# EAGLE library part CON64L (library con-harting)
CONNECTOR
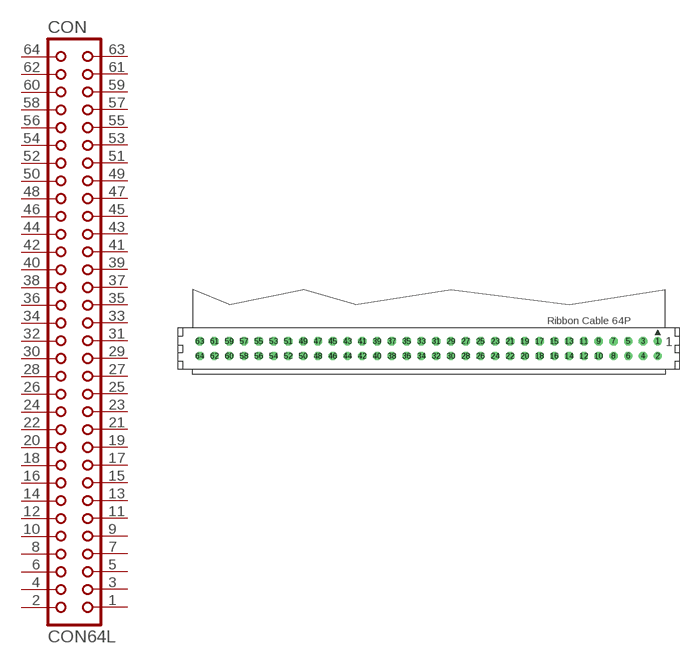
[diagram p22: symbol with the pads of CON64L; footprint CON64L]

Designator prefix CON

## CON64L (OC_FARNELL: unknown; OC_NEWARK: unknown)  [CON64L]
1  1  pas
2  2  pas
3  3  pas
4  4  pas
5  5  pas
6  6  pas
7  7  pas
8  8  pas
9  9  pas
10  10  pas
11  11  pas
12  12  pas
13  13  pas
14  14  pas
15  15  pas
16  16  pas
17  17  pas
18  18  pas
19  19  pas
20  20  pas
21  21  pas
22  22  pas
23  23  pas
24  24  pas
25  25  pas
26  26  pas
27  27  pas
28  28  pas
29  29  pas
30  30  pas
31  31  pas
32  32  pas
33  33  pas
34  34  pas
35  35  pas
36  36  pas
37  37  pas
38  38  pas
39  39  pas
40  40  pas
41  41  pas
42  42  pas
43  43  pas
44  44  pas
45  45  pas
46  46  pas
47  47  pas
48  48  pas
49  49  pas
50  50  pas
51  51  pas
52  52  pas
53  53  pas
54  54  pas
55  55  pas
56  56  pas
57  57  pas
58  58  pas
59  59  pas
60  60  pas
61  61  pas
62  62  pas
63  63  pas
64  64  pas

## Footprint CON64L (pad centres in mm)
CONNECTOR
drill 0.914: 1 39.37,1.27
drill 0.914 octagon: 2 39.37,-1.27; 3 36.83,1.27; 4 36.83,-1.27; 5 34.29,1.27; 6 34.29,-1.27; 7 31.75,1.27; 8 31.75,-1.27; 9 29.21,1.27; 10 29.21,-1.27; 11 26.67,1.27; 12 26.67,-1.27; 13 24.13,1.27; 14 24.13,-1.27; 15 21.59,1.27; 16 21.59,-1.27; 17 19.05,1.27; 18 19.05,-1.27; 19 16.51,1.27; 20 16.51,-1.27; 21 13.97,1.27; 22 13.97,-1.27; 23 11.43,1.27; 24 11.43,-1.27; 25 8.89,1.27; 26 8.89,-1.27; 27 6.35,1.27; 28 6.35,-1.27; 29 3.81,1.27; 30 3.81,-1.27; 31 1.27,1.27; 32 1.27,-1.27; 33 -1.27,1.27; 34 -1.27,-1.27; 35 -3.81,1.27; 36 -3.81,-1.27; 37 -6.35,1.27; 38 -6.35,-1.27; 39 -8.89,1.27; 40 -8.89,-1.27; 41 -11.43,1.27; 42 -11.43,-1.27; 43 -13.97,1.27; 44 -13.97,-1.27; 45 -16.51,1.27; 46 -16.51,-1.27; 47 -19.05,1.27; 48 -19.05,-1.27; 49 -21.59,1.27; 50 -21.59,-1.27; 51 -24.13,1.27; 52 -24.13,-1.27; 53 -26.67,1.27; 54 -26.67,-1.27; 55 -29.21,1.27; 56 -29.21,-1.27; 57 -31.75,1.27; 58 -31.75,-1.27; 59 -34.29,1.27; 60 -34.29,-1.27; 61 -36.83,1.27; 62 -36.83,-1.27; 63 -39.37,1.27; 64 -39.37,-1.27